# EAGLE library part RES-4PACK-0805 (library FlashPCB_Resistors)
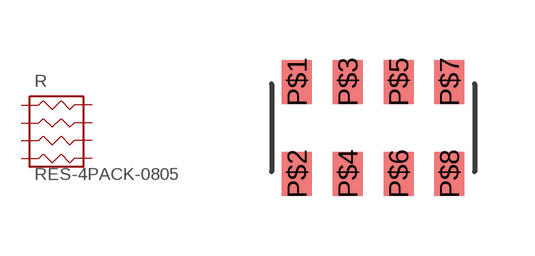
[diagram p1: symbol with the pads of RES-4PACK-0805; footprint RES-4PACK-0805]

Designator prefix R

## RES-4PACK-0805  [RES-4PACK-0805]
P$1  P$1
P$2  P$2
P$3  P$3
P$4  P$4
P$5  P$5
P$6  P$6
P$7  P$7
P$8  P$8

## Footprint RES-4PACK-0805 (pad centres in mm)
smd 0.75 x 1.1: P$1 -1.905,1.15; P$2 -1.905,-1.15; P$3 -0.635,1.15; P$4 -0.635,-1.15; P$5 0.635,1.15; P$6 0.635,-1.15; P$7 1.905,1.15; P$8 1.905,-1.15